# Altium footprint library WS-TASV SMD Tact Switch 6X6 mm.PcbLib: 27 footprints (part 1 of 2)
Each footprint in its own frame and in the unit in brackets; x right, y up, seen from the top. Pads: shape width x height; smd on the part's side, far side on the other; paste and mask are expansions set on the pad; w line width, h text height; cw(c..) or ccw(c..) is an arc to the next point about the centre after c.
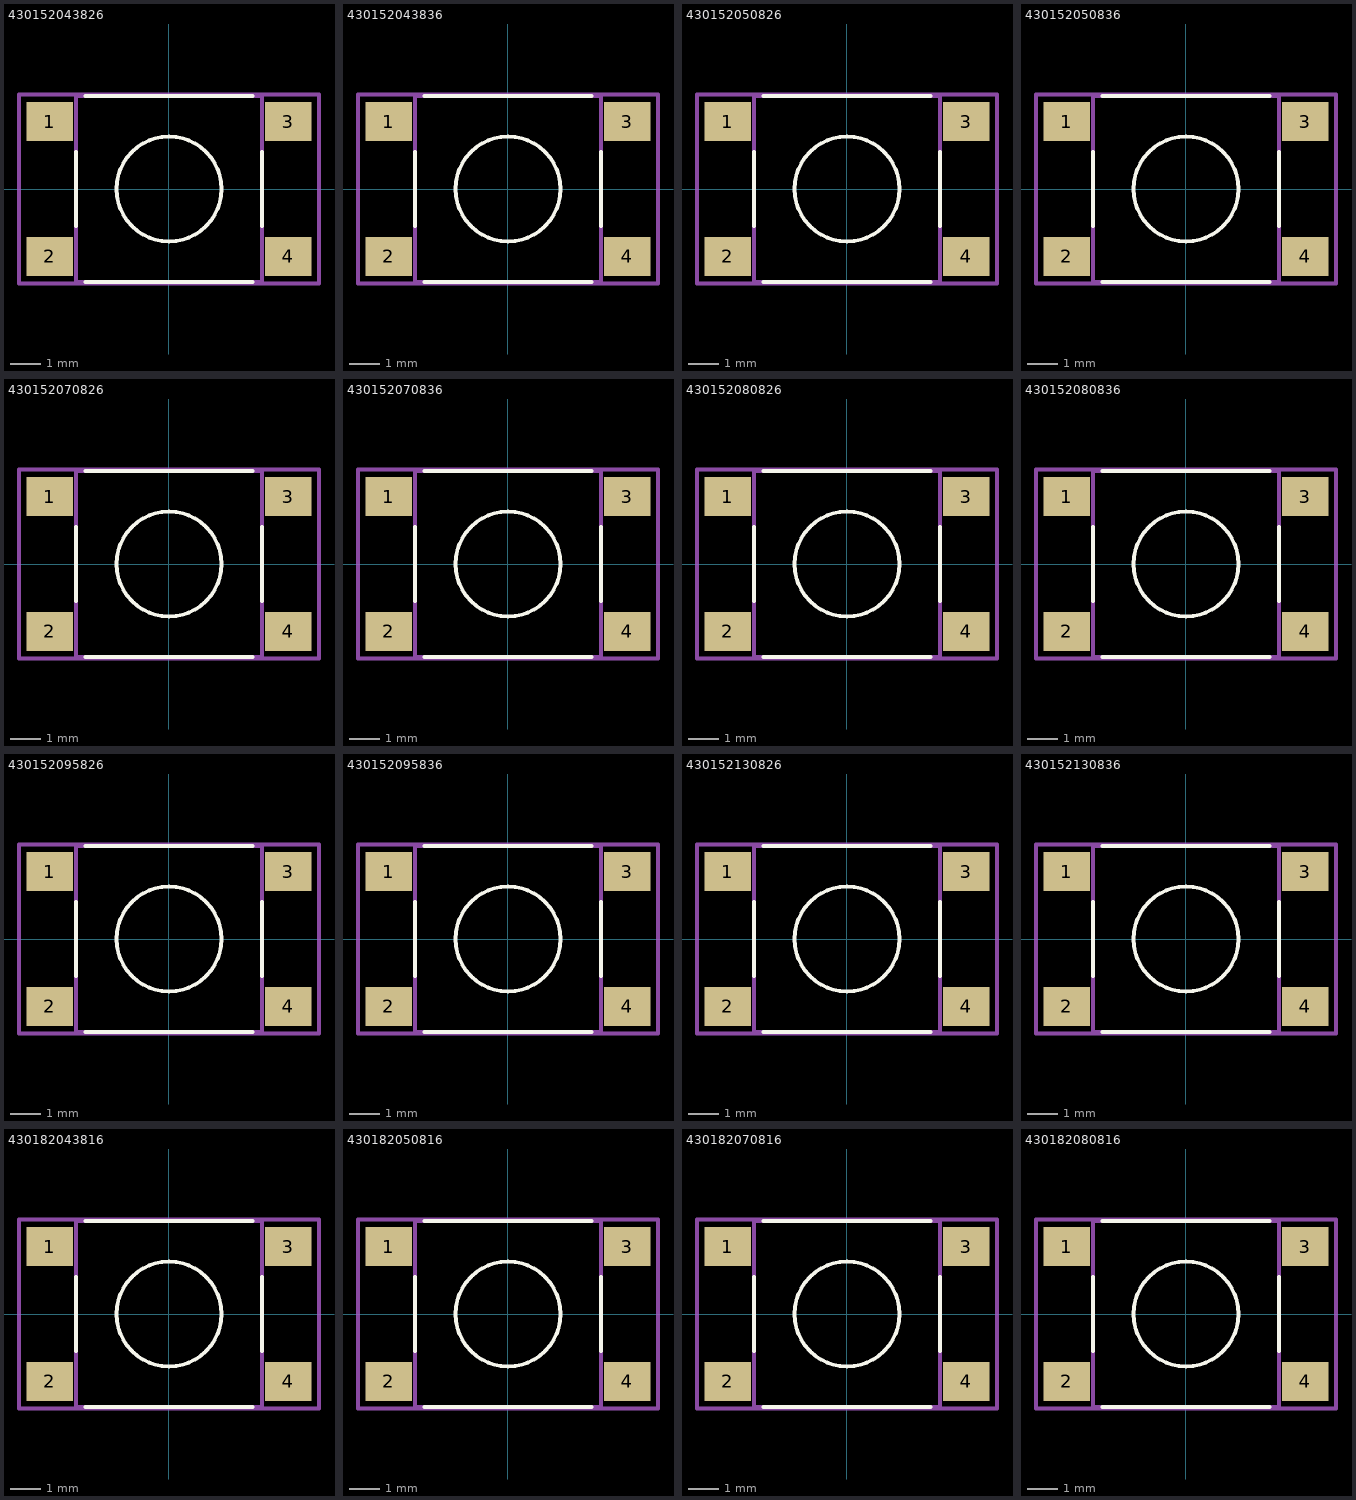
[diagram p0: the footprints below, top view; thin cyan lines are the x and y axes]

## 430152043826 [mm] "6*6mm vertical type, SMD, height 4.3mm, white actuator, 260gf, T&R"
height 4.3
pads (4):
  rect 1.55x1.3 smd: 1(-3.975,2.25) 2(-3.975,-2.25) 3(3.975,2.25) 4(3.975,-2.25)
Top Overlay:
  circle w0.127: c0,0 r1.75
  lines w0.127: -3.1,-1.24 -3.1,1.24 ; -2.79,-3.1 2.79,-3.1 ; -2.79,3.1 2.79,3.1 ; 3.1,-1.24 3.1,1.24
Mechanical 13:
  lines w0.127: -3.1,-3.1 3.1,-3.1 3.1,3.1 -3.1,3.1 -3.1,-3.1
Mechanical 15:
  lines w0.127: -5,-3.15 -5,3.15 5,3.15 5,-3.15 -5,-3.15
3D body "4301x20438x6.stp": height 4.3, standoff -0.01, extent -4.5,-3.1 4.5,3.1

## 430152043836 [mm] "6*6mm vertical type, SMD, height 4.3mm, salmon actuator, 360gf, T&R"
height 4.3
pads (4):
  rect 1.55x1.3 smd: 1(-3.975,2.25) 2(-3.975,-2.25) 3(3.975,2.25) 4(3.975,-2.25)
Top Overlay:
  circle w0.127: c0,0 r1.75
  lines w0.127: -3.1,-1.24 -3.1,1.24 ; -2.79,-3.1 2.79,-3.1 ; -2.79,3.1 2.79,3.1 ; 3.1,-1.24 3.1,1.24
Mechanical 13:
  lines w0.127: -3.1,-3.1 -3.1,3.1 3.1,3.1 3.1,-3.1 -3.1,-3.1
Mechanical 15:
  lines w0.127: -5,-3.15 5,-3.15 5,3.15 -5,3.15 -5,-3.15
3D body "4301x20438x6.stp": height 4.3, standoff -0.01, extent -4.5,-3.1 4.5,3.1

## 430152050826 [mm] "6*6mm vertical type, SMD, height 5.0mm, white actuator, 260gf, T&R"
height 5
pads (4):
  rect 1.55x1.3 smd: 1(-3.975,2.25) 2(-3.975,-2.25) 3(3.975,2.25) 4(3.975,-2.25)
Top Overlay:
  circle w0.127: c0,0 r1.75
  lines w0.127: -3.1,-1.24 -3.1,1.24 ; -2.79,-3.1 2.79,-3.1 ; -2.79,3.1 2.79,3.1 ; 3.1,-1.24 3.1,1.24
Mechanical 13:
  lines w0.127: -3.1,-3.1 3.1,-3.1 3.1,3.1 -3.1,3.1 -3.1,-3.1
Mechanical 15:
  lines w0.127: -5,-3.15 -5,3.15 5,3.15 5,-3.15 -5,-3.15
3D body "4301x20508x6.stp": height 5, standoff -0.01, extent -4.5,-3.1 4.5,3.1

## 430152050836 [mm] "6*6mm vertical type, SMD, height 5.0mm, salmon actuator, 360gf, T&R"
height 5
pads (4):
  rect 1.55x1.3 smd: 1(-3.975,2.25) 2(-3.975,-2.25) 3(3.975,2.25) 4(3.975,-2.25)
Top Overlay:
  circle w0.127: c0,0 r1.75
  lines w0.127: -3.1,-1.24 -3.1,1.24 ; -2.79,-3.1 2.79,-3.1 ; -2.79,3.1 2.79,3.1 ; 3.1,-1.24 3.1,1.24
Mechanical 13:
  lines w0.127: -3.1,-3.1 -3.1,3.1 3.1,3.1 3.1,-3.1 -3.1,-3.1
Mechanical 15:
  lines w0.127: -5,-3.15 5,-3.15 5,3.15 -5,3.15 -5,-3.15
3D body "4301x20508x6.stp": height 5, standoff -0.01, extent -4.5,-3.1 4.5,3.1

## 430152070826 [mm] "6*6mm vertical type, SMD, height 7.0mm, white actuator, 260gf, T&R"
height 7
pads (4):
  rect 1.55x1.3 smd: 1(-3.975,2.25) 2(-3.975,-2.25) 3(3.975,2.25) 4(3.975,-2.25)
Top Overlay:
  circle w0.127: c0,0 r1.75
  lines w0.127: -3.1,-1.24 -3.1,1.24 ; -2.79,-3.1 2.79,-3.1 ; -2.79,3.1 2.79,3.1 ; 3.1,-1.24 3.1,1.24
Mechanical 13:
  lines w0.127: -3.1,-3.1 3.1,-3.1 3.1,3.1 -3.1,3.1 -3.1,-3.1
Mechanical 15:
  lines w0.127: -5,-3.15 -5,3.15 5,3.15 5,-3.15 -5,-3.15
3D body "4301x20708x6.stp": height 7, standoff -0.01, extent -4.5,-3.1 4.5,3.1

## 430152070836 [mm] "6*6mm vertical type, SMD, height 7.0mm, salmon actuator, 360gf, T&R"
height 7
pads (4):
  rect 1.55x1.3 smd: 1(-3.975,2.25) 2(-3.975,-2.25) 3(3.975,2.25) 4(3.975,-2.25)
Top Overlay:
  circle w0.127: c0,0 r1.75
  lines w0.127: -3.1,-1.24 -3.1,1.24 ; -2.79,-3.1 2.79,-3.1 ; -2.79,3.1 2.79,3.1 ; 3.1,-1.24 3.1,1.24
Mechanical 13:
  lines w0.127: -3.1,-3.1 3.1,-3.1 3.1,3.1 -3.1,3.1 -3.1,-3.1
Mechanical 15:
  lines w0.127: -5,-3.15 -5,3.15 5,3.15 5,-3.15 -5,-3.15
3D body "4301x20708x6.stp": height 7, standoff -0.01, extent -4.5,-3.1 4.5,3.1

## 430152080826 [mm] "6*6mm vertical type, SMD, height 8.0mm, white actuator, 260gf, T&R"
height 8
pads (4):
  rect 1.55x1.3 smd: 1(-3.975,2.25) 2(-3.975,-2.25) 3(3.975,2.25) 4(3.975,-2.25)
Top Overlay:
  circle w0.127: c0,0 r1.75
  lines w0.127: -3.1,-1.24 -3.1,1.24 ; -2.79,-3.1 2.79,-3.1 ; -2.79,3.1 2.79,3.1 ; 3.1,-1.24 3.1,1.24
Mechanical 13:
  lines w0.127: -3.1,-3.1 -3.1,3.1 3.1,3.1 3.1,-3.1 -3.1,-3.1
Mechanical 15:
  lines w0.127: -5,-3.15 5,-3.15 5,3.15 -5,3.15 -5,-3.15
3D body "4301x20808x6.stp": height 8, standoff -0.01, extent -4.5,-3.1 4.5,3.1

## 430152080836 [mm] "6*6mm vertical type, SMD, height 8.0mm, salmon actuator, 360gf, T&R"
height 8
pads (4):
  rect 1.55x1.3 smd: 1(-3.975,2.25) 2(-3.975,-2.25) 3(3.975,2.25) 4(3.975,-2.25)
Top Overlay:
  circle w0.127: c0,0 r1.75
  lines w0.127: -3.1,-1.24 -3.1,1.24 ; -2.79,-3.1 2.79,-3.1 ; -2.79,3.1 2.79,3.1 ; 3.1,-1.24 3.1,1.24
Mechanical 13:
  lines w0.127: -3.1,-3.1 -3.1,3.1 3.1,3.1 3.1,-3.1 -3.1,-3.1
Mechanical 15:
  lines w0.127: -5,-3.15 5,-3.15 5,3.15 -5,3.15 -5,-3.15
3D body "4301x20808x6.stp": height 8, standoff -0.01, extent -4.5,-3.1 4.5,3.1

## 430152095826 [mm] "6*6mm vertical type, SMD, height 9.5mm, white actuator, 260gf, T&R"
height 9.5
pads (4):
  rect 1.55x1.3 smd: 1(-3.975,2.25) 2(-3.975,-2.25) 3(3.975,2.25) 4(3.975,-2.25)
Top Overlay:
  circle w0.127: c0,0 r1.75
  lines w0.127: -3.1,-1.24 -3.1,1.24 ; -2.79,-3.1 2.79,-3.1 ; -2.79,3.1 2.79,3.1 ; 3.1,-1.24 3.1,1.24
Mechanical 13:
  lines w0.127: -3.1,-3.1 -3.1,3.1 3.1,3.1 3.1,-3.1 -3.1,-3.1
Mechanical 15:
  lines w0.127: -5,-3.15 5,-3.15 5,3.15 -5,3.15 -5,-3.15
3D body "4301x20958x6.stp": height 9.5, standoff -0.01, extent -4.5,-3.1 4.5,3.1

## 430152095836 [mm] "6*6mm vertical type, SMD, height 9.5mm, salmon actuator, 360gf, T&R"
height 9.5
pads (4):
  rect 1.55x1.3 smd: 1(-3.975,2.25) 2(-3.975,-2.25) 3(3.975,2.25) 4(3.975,-2.25)
Top Overlay:
  circle w0.127: c0,0 r1.75
  lines w0.127: -3.1,-1.24 -3.1,1.24 ; -2.79,-3.1 2.79,-3.1 ; -2.79,3.1 2.79,3.1 ; 3.1,-1.24 3.1,1.24
Mechanical 13:
  lines w0.127: -3.1,-3.1 -3.1,3.1 3.1,3.1 3.1,-3.1 -3.1,-3.1
Mechanical 15:
  lines w0.127: -5,-3.15 5,-3.15 5,3.15 -5,3.15 -5,-3.15
3D body "4301x20958x6.stp": height 9.5, standoff -0.01, extent -4.5,-3.1 4.5,3.1

## 430152130826 [mm] "6*6mm vertical type, SMD, height 13.0mm, white actuator, 260gf, T&R"
height 13
pads (4):
  rect 1.55x1.3 smd: 1(-3.975,2.25) 2(-3.975,-2.25) 3(3.975,2.25) 4(3.975,-2.25)
Top Overlay:
  circle w0.127: c0,0 r1.75
  lines w0.127: -3.1,-1.24 -3.1,1.24 ; -2.79,-3.1 2.79,-3.1 ; -2.79,3.1 2.79,3.1 ; 3.1,-1.24 3.1,1.24
Mechanical 13:
  lines w0.127: -3.1,-3.1 3.1,-3.1 3.1,3.1 -3.1,3.1 -3.1,-3.1
Mechanical 15:
  lines w0.127: -5,-3.15 -5,3.15 5,3.15 5,-3.15 -5,-3.15
3D body "4301x21308x6.stp": height 13, standoff -0.01, extent -4.5,-3.1 4.5,3.1

## 430152130836 [mm] "6*6mm vertical type, SMD, height 13.0mm, salmon actuator, 360gf, T&R"
height 13
pads (4):
  rect 1.55x1.3 smd: 1(-3.975,2.25) 2(-3.975,-2.25) 3(3.975,2.25) 4(3.975,-2.25)
Top Overlay:
  circle w0.127: c0,0 r1.75
  lines w0.127: -3.1,-1.24 -3.1,1.24 ; -2.79,-3.1 2.79,-3.1 ; -2.79,3.1 2.79,3.1 ; 3.1,-1.24 3.1,1.24
Mechanical 13:
  lines w0.127: -3.1,-3.1 3.1,-3.1 3.1,3.1 -3.1,3.1 -3.1,-3.1
Mechanical 15:
  lines w0.127: -5,-3.15 -5,3.15 5,3.15 5,-3.15 -5,-3.15
3D body "4301x21308x6.stp": height 13, standoff -0.01, extent -4.5,-3.1 4.5,3.1

## 430182043816 [mm] "6*6mm vertical type, SMD, height 4.3mm, black actuator, 160gf, T&R"
height 4.3
pads (4):
  rect 1.55x1.3 smd: 1(-3.975,2.25) 2(-3.975,-2.25) 3(3.975,2.25) 4(3.975,-2.25)
Top Overlay:
  circle w0.127: c0,0 r1.75
  lines w0.127: -3.1,-1.24 -3.1,1.24 ; -2.79,-3.1 2.79,-3.1 ; -2.79,3.1 2.79,3.1 ; 3.1,-1.24 3.1,1.24
Mechanical 13:
  lines w0.127: -3.1,-3.1 3.1,-3.1 3.1,3.1 -3.1,3.1 -3.1,-3.1
Mechanical 15:
  lines w0.127: -5,-3.15 -5,3.15 5,3.15 5,-3.15 -5,-3.15
3D body "4301x20438x6.stp": height 4.3, standoff -0.01, extent -4.5,-3.1 4.5,3.1

## 430182050816 [mm] "6*6mm vertical type, SMD, height 5.0mm, black actuator, 160gf, T&R"
height 5
pads (4):
  rect 1.55x1.3 smd: 1(-3.975,2.25) 2(-3.975,-2.25) 3(3.975,2.25) 4(3.975,-2.25)
Top Overlay:
  circle w0.127: c0,0 r1.75
  lines w0.127: -3.1,-1.24 -3.1,1.24 ; -2.79,-3.1 2.79,-3.1 ; -2.79,3.1 2.79,3.1 ; 3.1,-1.24 3.1,1.24
Mechanical 13:
  lines w0.127: -3.1,-3.1 3.1,-3.1 3.1,3.1 -3.1,3.1 -3.1,-3.1
Mechanical 15:
  lines w0.127: -5,-3.15 -5,3.15 5,3.15 5,-3.15 -5,-3.15
3D body "4301x20508x6.stp": height 5, standoff -0.01, extent -4.5,-3.1 4.5,3.1

## 430182070816 [mm] "6*6mm vertical type, SMD, height 7.0mm, black actuator, 160gf, T&R"
height 7
pads (4):
  rect 1.55x1.3 smd: 1(-3.975,2.25) 2(-3.975,-2.25) 3(3.975,2.25) 4(3.975,-2.25)
Top Overlay:
  circle w0.127: c0,0 r1.75
  lines w0.127: -3.1,-1.24 -3.1,1.24 ; -2.79,-3.1 2.79,-3.1 ; -2.79,3.1 2.79,3.1 ; 3.1,-1.24 3.1,1.24
Mechanical 13:
  lines w0.127: -3.1,-3.1 3.1,-3.1 3.1,3.1 -3.1,3.1 -3.1,-3.1
Mechanical 15:
  lines w0.127: -5,-3.15 -5,3.15 5,3.15 5,-3.15 -5,-3.15
3D body "4301x20708x6.stp": height 7, standoff -0.01, extent -4.5,-3.1 4.5,3.1

## 430182080816 [mm] "6*6mm vertical type, SMD, height 8.0mm, black actuator, 160gf, T&R"
height 8
pads (4):
  rect 1.55x1.3 smd: 1(-3.975,2.25) 2(-3.975,-2.25) 3(3.975,2.25) 4(3.975,-2.25)
Top Overlay:
  circle w0.127: c0,0 r1.75
  lines w0.127: -3.1,-1.24 -3.1,1.24 ; -2.79,-3.1 2.79,-3.1 ; -2.79,3.1 2.79,3.1 ; 3.1,-1.24 3.1,1.24
Mechanical 13:
  lines w0.127: -3.1,-3.1 3.1,-3.1 3.1,3.1 -3.1,3.1 -3.1,-3.1
Mechanical 15:
  lines w0.127: -5,-3.15 -5,3.15 5,3.15 5,-3.15 -5,-3.15
3D body "4301x20808x6.stp": height 8, standoff -0.01, extent -4.5,-3.1 4.5,3.1